# Altium footprint library QUTMS_SwitchLibrary.PcbLib: 7 footprints
Each footprint in its own frame and in the unit in brackets; x right, y up, seen from the top. Pads: shape width x height; smd on the part's side, far side on the other; paste and mask are expansions set on the pad; w line width, h text height; cw(c..) or ccw(c..) is an arc to the next point about the centre after c.
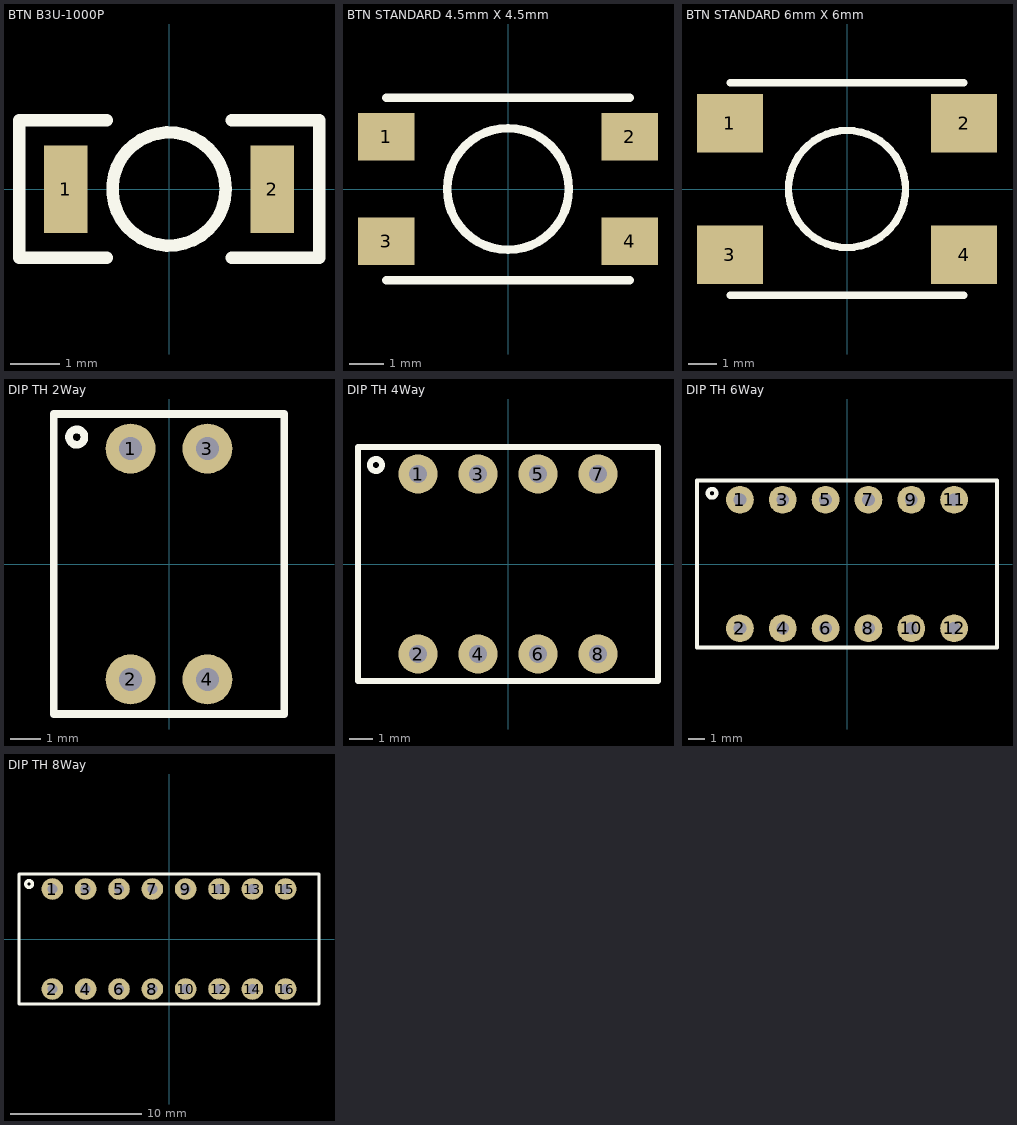
[diagram p0: the footprints below, top view; thin cyan lines are the x and y axes]

## BTN B3U-1000P [mil] "OMRON B3U-1000P"
pads (2):
  rect 35x70 smd: 1(-82.68,0) 2(82.68,0)
Top Overlay:
  circle w10: c0,0 r45.28
  lines w10: -50,-55 -120,-55 -120,55 -50,55 ; 50,-55 120,-55 120,55 50,55
3D body "B3U_1000P.step": height 62.99, standoff 0, extent -78.74,-49.21 78.74,49.22

## BTN STANDARD 4.5mm X 4.5mm [mil]
pads (4):
  rect 65x55 smd: 1(-140,60) 2(140,60) 3(-140,-60) 4(140,-60)
Top Overlay:
  circle w10: c0,0 r70
  lines w10: -140,-105 140,-105 ; -140,105 140,105
3D body "Tact Switch 4.5mm SMT.step": height 165.35, standoff 0, extent -147.64,-88.58 147.64,88.59

## BTN STANDARD 6mm X 6mm [mil]
pads (4):
  rect 90x80 smd: 1(-160,90) 2(160,90) 3(-160,-90) 4(160,-90)
Top Overlay:
  circle w10: c0,0 r80
  lines w10: -160,-145 160,-145 ; -160,145 160,145
3D body "Tactal Switch - SMD (6mmx 6mmx 5mm) - Marked.stp": height 196.85, standoff 0, extent -177.5,-118.75 177.5,118.75

## DIP TH 2Way [mil]
pads (4):
  round 65 hole 30: 1(-50,150) 2(-50,-150) 3(50,150) 4(50,-150)
Top Overlay:
  circle w10: c-120,165 r10
  lines w10: -150,-195 -150,195 150,195 150,-195 -150,-195
3D body "206-2.STEP": height 335, standoff -149.9, extent -142.31,-190.27 144.69,189.73

## DIP TH 4Way [mil]
pads (8):
  round 65 hole 30: 1(-150,150) 2(-150,-150) 3(-50,150) 4(-50,-150) 5(50,150) 6(50,-150) 7(150,150) 8(150,-150)
Top Overlay:
  circle w10: c-220,165 r10
  lines w10: -250,-195 -250,195 250,195 250,-195 -250,-195
3D body "206-4.STEP": height 335.05, standoff -149.99, extent -245.03,-190.31 241.97,189.69

## DIP TH 6Way [mil]
pads (12):
  round 65 hole 30: 1(-250,150) 2(-250,-150) 3(-150,150) 4(-150,-150) 5(-50,150) 6(-50,-150) 7(50,150) 8(50,-150) 9(150,150) 10(150,-150) 11(250,150) 12(250,-150)
Top Overlay:
  circle w10: c-315,165 r10
  lines w10: -350,-195 -350,195 350,195 350,-195 -350,-195
3D body "206-6.STEP": height 334.97, standoff -149.99, extent -344.53,-187.98 341.47,192.02

## DIP TH 8Way [mil]
pads (16):
  round 65 hole 30: 1(-350,150) 2(-350,-150) 3(-250,150) 4(-250,-150) 5(-150,150) 6(-150,-150) 7(-50,150) 8(-50,-150) 9(50,150) 10(50,-150) 11(150,150) 12(150,-150) 13(250,150) 14(250,-150) 15(350,150) 16(350,-150)
Top Overlay:
  circle w10: c-420,165 r10
  lines w10: -450,-195 -450,195 450,195 450,-195 -450,-195
3D body "206-8.STEP": height 335.05, standoff -149.9, extent -441.34,-187.81 445.66,192.19